# Altium schematic symbol library TS972IDT.SchLib: 2 symbols
Pins are listed as number, name and electrical type; pins without a type are passive.

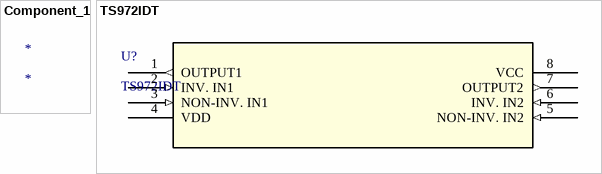
[diagram p0: symbols Component_1 to TS972IDT]

## Component_1
designator *

## TS972IDT
designator U?
No Description Available; Mfr_Name: STMicroelectronics; Copyright: Copyright (C) 2021 Ultra Librarian. All rights reserved.; Manufacturer_Part_Number: TS972IDT; RefDes: RefDes; Type: DEV
footprint SO-8_STM
pins: 1 OUTPUT1 (out), 2 INV. IN1 (in), 3 NON-INV. IN1 (in), 4 VDD (power), 5 NON-INV. IN2 (in), 6 INV. IN2 (in), 7 OUTPUT2 (out), 8 VCC (power)